# Altium footprint library SparkFun-DiscreteSemi.PCBLIB: 44 footprints (part 2 of 3)
Each footprint in its own frame and in the unit in brackets; x right, y up, seen from the top. Pads: shape width x height; smd on the part's side, far side on the other; paste and mask are expansions set on the pad; w line width, h text height; cw(c..) or ccw(c..) is an arc to the next point about the centre after c.
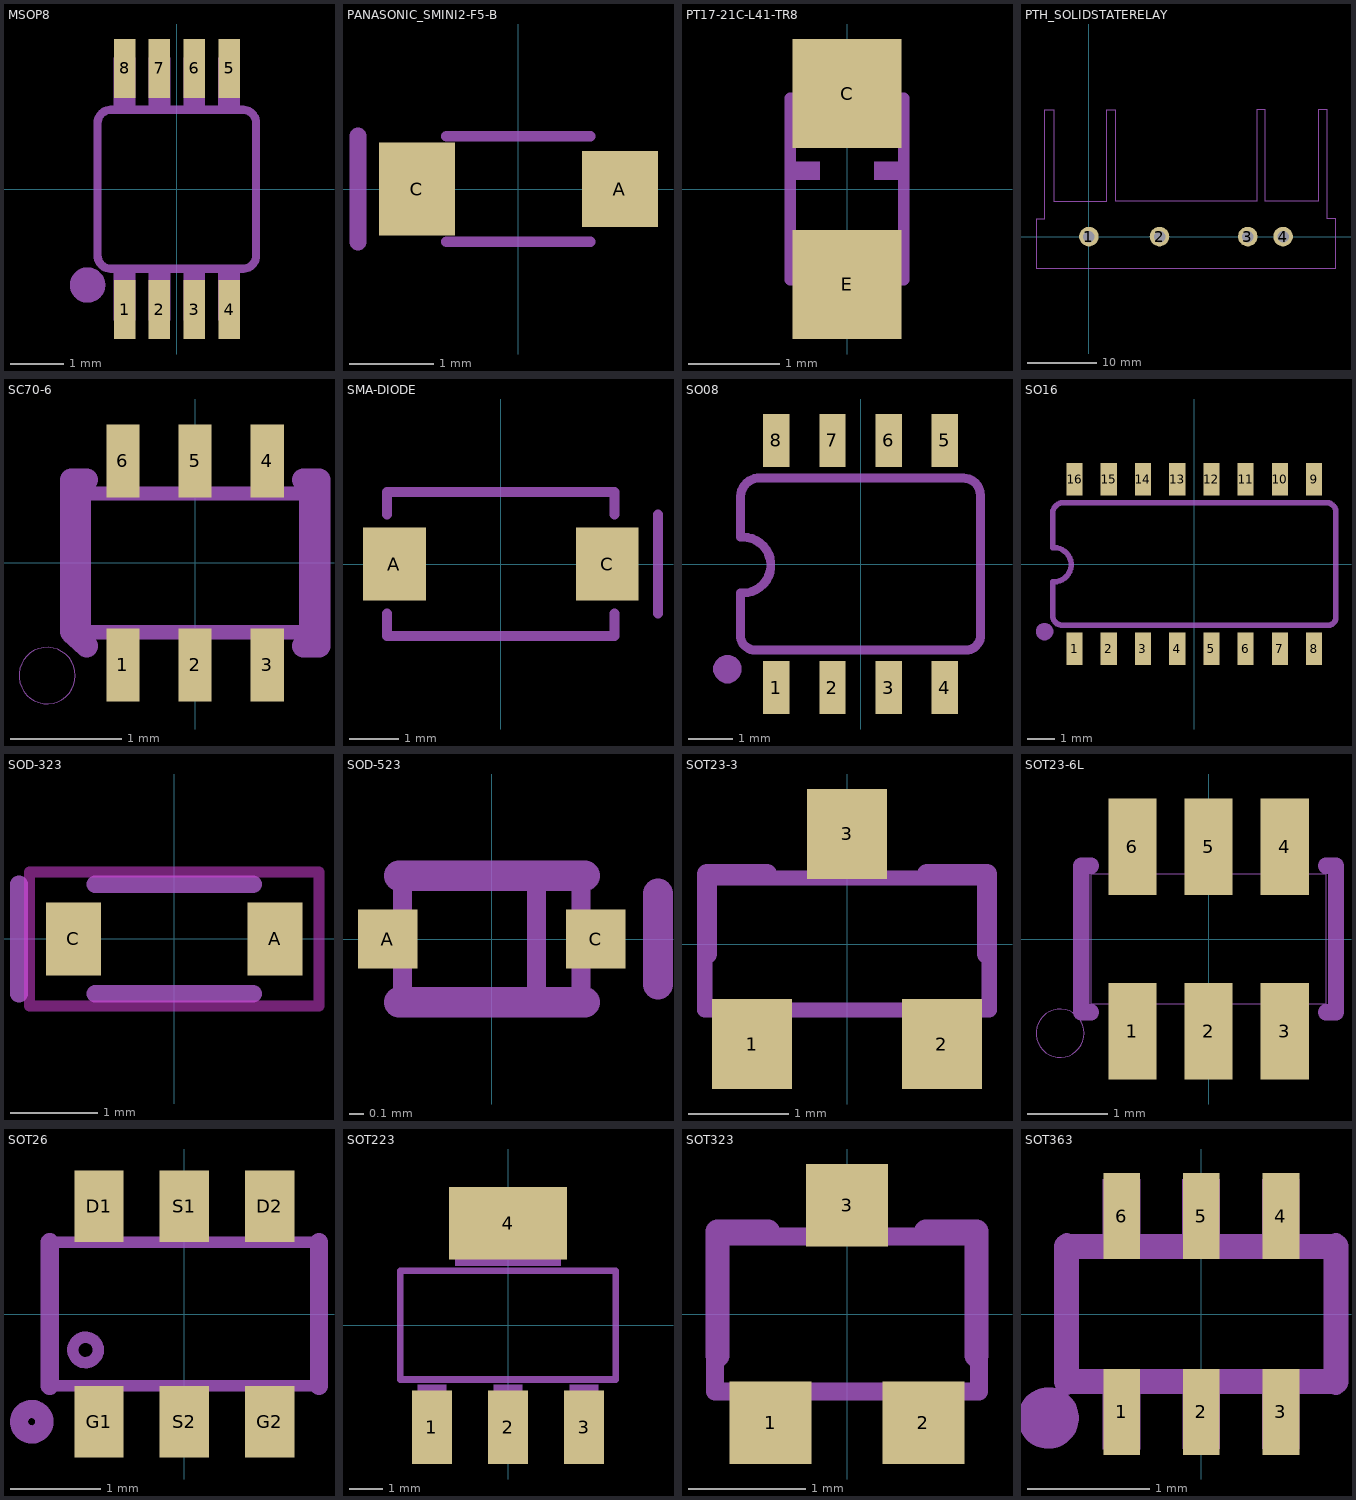
[diagram p1: the footprints below, top view; thin cyan lines are the x and y axes]

## MSOP8 [mm]
pads (8):
  rect 0.4x1.1 smd: 1(-0.975,-2.25) 2(-0.325,-2.25) 3(0.325,-2.25) 4(0.975,-2.25) 5(0.975,2.25) 6(0.325,2.25) 7(-0.325,2.25) 8(-0.975,2.25)
tDocu:
  region: -1.175,-2.45 -1.175,-1.55 -0.775,-1.55 -0.775,-2.45
  region: -0.525,-2.45 -0.525,-1.55 -0.125,-1.55 -0.125,-2.45
  region: 0.125,-2.45 0.125,-1.55 0.525,-1.55 0.525,-2.45
  region: 0.775,-2.45 0.775,-1.55 1.175,-1.55 1.175,-2.45
  region: 0.775,1.55 0.775,2.45 1.175,2.45 1.175,1.55
  region: 0.125,1.55 0.125,2.45 0.525,2.45 0.525,1.55
  region: -0.525,1.55 -0.525,2.45 -0.125,2.45 -0.125,1.55
  region: -1.175,1.55 -1.175,2.45 -0.775,2.45 -0.775,1.55
tPlace:
  circle w0.356: c-1.666,-1.793 r0.152
  lines w0.152: -1.48,-1.24 ccw(c-1.23,-1.24) -1.23,-1.49 ; -1.48,-1.23 -1.48,1.23 cw(c-1.23,1.23) -1.23,1.48 ; -1.22,-1.49 1.24,-1.49 ; -1.22,1.48 1.24,1.48 ; 1.23,-1.49 ccw(c1.23,-1.24) 1.48,-1.24 1.48,1.23 ccw(c1.23,1.23) 1.23,1.48

## PANASONIC_SMINI2-F5-B [mm]
pads (2):
  rect 0.9x0.9 smd: A(1.2,0)
  rect 0.9x1.1 smd: C(-1.2,0)
tPlace:
  lines w0.127: -0.85,-0.625 0.85,-0.625 ; -0.85,0.625 0.85,0.625
  lines w0.203: -1.897,-0.625 -1.897,0.625

## PT17-21C-L41-TR8 [mm]
pads (2):
  rect 1.2x1.2 smd: C(0,1.05) E(0,-1.05)
tDocu:
  region: -0.6,0.1 -0.6,0.3 -0.3,0.3 -0.3,0.1
  region: 0.3,0.1 0.3,0.3 0.6,0.3 0.6,0.1
  lines w0.127: -0.4,1 ccw(c0,1) 0.4,1 ; -0.35,-0.8 -0.625,-0.8 ; 0.35,-0.8 0.6,-0.8 ; -0.625,-0.8 -0.625,-1 -0.4,-1 ; -0.625,-0.8 -0.625,1 0.625,1 0.625,-1 0.4,-1 ; -0.4,-1 0.4,-1 ; -0.4,-1 cw(c0,-1) 0.4,-1
tPlace:
  region: 0.3,0.1 0.3,0.3 0.6,0.3 0.6,0.1
  region: -0.6,0.1 -0.6,0.3 -0.3,0.3 -0.3,0.1

## PTH_SOLIDSTATERELAY [mil]
pads (4):
  round 111 hole 65: 1(0,0) 2(400,0) 3(900,0) 4(1100,0)
tDocu:
  lines w5: -300,-180 -300,100 -250,100 -250,720 -200,720 -200,200 100,200 100,720 150,720 150,200 950,200 950,720 1000,720 1000,200 1300,200 1300,720 1350,720 1350,100 1400,100 1400,-180 -300,-180
tPlace:
  lines w5: -300,-180 -300,100 -250,100 -250,720 -200,720 -200,200 100,200 100,720 150,720 150,200 950,200 950,720 1000,720 1000,200 1300,200 1300,720 1350,720 1350,100 1400,100 1400,-180 -300,-180

## SC70-6 [mm]
pads (6):
  rect 0.3x0.66 smd: 1(-0.65,-0.92) 2(0,-0.92) 3(0.65,-0.92) 4(0.65,0.92) 5(0,0.92) 6(-0.65,0.92)
tDocu:
  region: -0.102,0.686 -0.102,1.041 0.102,1.041 0.102,0.686
  region: -0.102,-1.041 -0.102,-0.686 0.102,-0.686 0.102,-1.041
  region: 0.548,0.686 0.548,1.041 0.752,1.041 0.752,0.686
  region: -0.752,0.686 -0.752,1.041 -0.548,1.041 -0.548,0.686
  region: -0.752,-1.041 -0.752,-0.686 -0.548,-0.686 -0.548,-1.041
  region: 0.548,-1.041 0.548,-0.686 0.752,-0.686 0.752,-1.041
  lines w0.127: -1,-0.625 -1,0.625 1,0.625 1,-0.625 -1,-0.625
tPlace:
  circle w0: c-1.333,-1.016 r0.254
  lines w0.203: -0.978,-0.749 -1.118,-0.622 -1.118,0.749 -0.978,0.749 ; 0.978,-0.749 1.118,-0.749 1.118,0.749 0.978,0.749

## SMA-DIODE [mm]
pads (2):
  rect 1.27x1.47 smd: A(-2.15,0) C(2.15,0)
tPlace:
  lines w0.203: -2.3,-1 -2.3,-1.45 2.3,-1.45 2.3,-1 ; -2.3,1 -2.3,1.45 2.3,1.45 2.3,1 ; 3.175,-1 3.175,1

## SO08 [mm]
pads (8):
  rect 0.6x1.2 smd: 1(-1.905,-2.8) 2(-0.635,-2.8) 3(0.635,-2.8) 4(1.905,-2.8) 5(1.905,2.8) 6(0.635,2.8) 7(-0.635,2.8) 8(-1.905,2.8)
tDocu:
  region: -2.159,-3.302 -2.159,-2.273 -1.651,-2.273 -1.651,-3.302
  region: -0.889,-3.302 -0.889,-2.273 -0.381,-2.273 -0.381,-3.302
  region: 0.381,-3.302 0.381,-2.273 0.889,-2.273 0.889,-3.302
  region: 1.651,-3.302 1.651,-2.273 2.159,-2.273 2.159,-3.302
  region: -0.889,2.286 -0.889,3.302 -0.381,3.302 -0.381,2.286
  region: 0.381,2.286 0.381,3.302 0.889,3.302 0.889,2.286
  region: 1.651,2.286 1.651,3.302 2.159,3.302 2.159,2.286
  region: -2.159,2.286 -2.159,3.302 -1.651,3.302 -1.651,2.286
tPlace:
  region: -2.699,-2.381 -2.699,-2.318 -2.747,-2.201 -2.836,-2.112 -2.953,-2.064 -3.016,-2.064 -3.079,-2.064 -3.196,-2.112 -3.285,-2.201 -3.334,-2.318 -3.334,-2.381 -3.334,-2.444 -3.285,-2.561 -3.196,-2.65 -3.079,-2.699 -3.016,-2.699 -2.953,-2.699 -2.836,-2.65 -2.747,-2.561 -2.699,-2.444 -2.699,-2.381
  lines w0.203: -2.718,-0.66 -2.718,-1.665 ccw(c-2.387,-1.616) -2.337,-1.946 2.437,-1.946 ccw(c2.387,-1.615) 2.718,-1.565 2.718,1.565 ccw(c2.337,1.566) 2.337,1.946 -2.337,1.946 ccw(c-2.287,1.515) -2.718,1.465 ; -2.718,0.61 -2.718,1.453 ; -2.667,-0.66 ccw(c-2.667,-0.025) -2.667,0.61

## SO16 [mm]
pads (16):
  rect 0.6x1.2 smd: 1(-4.445,-3.15) 2(-3.175,-3.15) 3(-1.905,-3.15) 4(-0.635,-3.15) 5(0.635,-3.15) 6(1.905,-3.15) 7(3.175,-3.15) 8(4.445,-3.15) 9(4.445,3.15) 10(3.175,3.15) 11(1.905,3.15) 12(0.635,3.15) 13(-0.635,3.15) 14(-1.905,3.15) 15(-3.175,3.15) 16(-4.445,3.15)
tDocu:
  region: -4.699,-3.683 -4.699,-2.654 -4.191,-2.654 -4.191,-3.683
  region: -3.429,-3.683 -3.429,-2.654 -2.921,-2.654 -2.921,-3.683
  region: -2.159,-3.683 -2.159,-2.654 -1.651,-2.654 -1.651,-3.683
  region: -0.889,-3.683 -0.889,-2.654 -0.381,-2.654 -0.381,-3.683
  region: -3.429,2.667 -3.429,3.683 -2.921,3.683 -2.921,2.667
  region: -2.159,2.667 -2.159,3.683 -1.651,3.683 -1.651,2.667
  region: -0.889,2.667 -0.889,3.683 -0.381,3.683 -0.381,2.667
  region: -4.699,2.667 -4.699,3.683 -4.191,3.683 -4.191,2.667
  region: 0.381,-3.683 0.381,-2.654 0.889,-2.654 0.889,-3.683
  region: 1.651,-3.683 1.651,-2.654 2.159,-2.654 2.159,-3.683
  region: 2.921,-3.683 2.921,-2.654 3.429,-2.654 3.429,-3.683
  region: 4.191,-3.683 4.191,-2.654 4.699,-2.654 4.699,-3.683
  region: 1.651,2.667 1.651,3.683 2.159,3.683 2.159,2.667
  region: 2.921,2.667 2.921,3.683 3.429,3.683 3.429,2.667
  region: 4.191,2.667 4.191,3.683 4.699,3.683 4.699,2.667
  region: 0.381,2.667 0.381,3.683 0.889,3.683 0.889,2.667
tPlace:
  region: -5.239,-2.508 -5.239,-2.445 -5.287,-2.328 -5.376,-2.239 -5.493,-2.191 -5.556,-2.191 -5.619,-2.191 -5.736,-2.239 -5.825,-2.328 -5.874,-2.445 -5.874,-2.508 -5.874,-2.571 -5.825,-2.688 -5.736,-2.777 -5.619,-2.826 -5.556,-2.826 -5.493,-2.826 -5.376,-2.777 -5.287,-2.688 -5.239,-2.571 -5.239,-2.508
  lines w0.203: -5.258,-0.66 -5.258,-1.919 ccw(c-4.89,-1.907) -4.877,-2.275 4.977,-2.275 ccw(c4.953,-1.97) 5.258,-1.946 5.258,1.946 ccw(c4.903,1.92) 4.877,2.275 -4.877,2.275 ccw(c-4.853,1.87) -5.258,1.846 ; -5.258,0.61 -5.258,1.834 ; -5.207,-0.66 ccw(c-5.207,-0.025) -5.207,0.61

## SOD-323 [mm]
pads (2):
  rect 0.63x0.83 smd: A(1.15,0) C(-1.15,0)
Top keep-out:
  lines w0.127: -1.651,-0.762 1.651,-0.762 1.651,0.762 -1.651,0.762 -1.651,-0.762
tPlace:
  lines w0.203: -1.77,-0.625 -1.77,0.625 ; -0.9,-0.625 0.9,-0.625 ; -0.9,0.625 0.9,0.625

## SOD-523 [mm]
pads (2):
  rect 0.4x0.4 smd: A(-0.7,0) C(0.7,0)
tDocu:
  lines w0.127: -0.6,-0.1 -0.6,0.1 ; -0.6,-0.1 -0.6,-0.4 0.3,-0.4 ; -0.6,-0.1 -0.8,-0.1 -0.8,0.1 -0.6,0.1 ; -0.6,0.1 -0.6,0.4 0.3,0.4 ; 0.3,-0.4 0.6,-0.4 0.6,-0.1 ; 0.3,-0.4 0.3,0.4 ; 0.3,0.4 0.6,0.4 0.6,0.1 ; 0.6,-0.1 0.6,0.1 ; 0.6,-0.1 0.8,-0.1 0.8,0.1 0.6,0.1
tPlace:
  lines w0.203: -0.625,-0.425 0.625,-0.425 ; -0.625,0.425 0.625,0.425 ; 1.118,-0.305 1.118,0.305

## SOT23-3 [mil]
pads (3):
  rect 31.5x35.43 smd: 1(-37.4,-39.37) 2(37.4,-39.37) 3(0,43.31)
tDocu:
  lines w6: -56,-26 56,-26 56,26 -56,26 -56,-26
tPlace:
  lines w8: -55.12,-3.94 -55.12,27.56 -31.5,27.56 ; 31.5,27.56 55.12,27.56 55.12,-3.94

## SOT23-6L [mm]
pads (6):
  rect 0.6x1.2 smd: 1(-0.95,-1.15) 2(0,-1.15) 3(0.95,-1.15) 4(0.95,1.15) 5(0,1.15) 6(-0.95,1.15)
tDocu:
  region: 0.738,1.05 0.738,1.4 1.163,1.4 1.163,1.05
  region: -0.213,1.05 -0.213,1.4 0.213,1.4 0.213,1.05
  region: -1.163,1.05 -1.163,1.4 -0.738,1.4 -0.738,1.05
  region: 1.163,-1.05 1.163,-1.4 0.738,-1.4 0.738,-1.05
  region: 0.213,-1.05 0.213,-1.4 -0.213,-1.4 -0.213,-1.05
  region: -0.738,-1.05 -0.738,-1.4 -1.163,-1.4 -1.163,-1.05
  lines w0.003: -1.463,-0.813 -1.463,0.813 1.463,0.813 1.463,-0.813 -1.463,-0.813
tPlace:
  circle w0: c-1.851,-1.174 r0.3
  lines w0.203: -1.465,-0.913 -1.588,-0.913 -1.588,0.913 -1.465,0.913 ; 1.465,-0.913 1.588,-0.913 1.588,0.913 1.465,0.913

## SOT26 [mil]
pads (6):
  rect 21.65x31.5 smd: D1(-37.4,47.24) D2(37.4,47.24) G1(-37.4,-47.24) G2(37.4,-47.24) S1(0,47.24) S2(0,-47.24)
tDocu:
  circle w5: c-43.31,-15.75 r5.57
  lines w5: -59.06,-31.5 -59.06,31.5 59.06,31.5 59.06,-31.5 -59.06,-31.5
tPlace:
  circle w8: c-66.93,-47.24 r5.57
  lines w8: -59.06,-31.5 -59.06,31.5 ; 59.06,-31.5 59.06,31.5

## SOT223 [mil]
pads (4):
  rect 48x88 smd: 1(-91,-122) 2(0,-122) 3(91,-122)
  rect 141.73x86.61 smd: 4(0,122.01)
tDocu:
  region: -63,71 -63,144 63,144 63,71
  region: -17,-144 -17,-71 17,-71 17,-144
  region: -108,-144 -108,-71 -74,-71 -74,-144
  region: 74,-144 74,-71 108,-71 108,-144
  region: -63,71 -63,144 63,144 63,71
  region: -17,-144 -17,-71 17,-71 17,-144
  region: -108,-144 -108,-71 -74,-71 -74,-144
  region: 74,-144 74,-71 108,-71 108,-144
tPlace:
  lines w8: -129,-65 129,-65 129,65 -129,65 -129,-65

## SOT323 [mm]
pads (3):
  rect 0.7x0.7 smd: 1(-0.65,-0.925) 2(0.65,-0.925) 3(0,0.925)
tDocu:
  lines w0.152: -1.122,-0.66 1.122,-0.66 1.122,0.66 -1.122,0.66 -1.122,-0.66
tPlace:
  lines w0.203: -1.1,-0.354 -1.1,0.7 -0.673,0.7 ; 0.673,0.7 1.1,0.7 1.1,-0.354

## SOT363 [mil]
pads (6):
  rect 11.81x27.56 smd: 1(-25.59,-31.5) 2(0,-31.5) 3(25.59,-31.5) 4(25.59,31.5) 5(0,31.5) 6(-25.59,31.5)
tDocu:
  region: -31.74,-43.43 -31.74,-23.62 -19.69,-23.62 -19.69,-43.43
  region: -5.98,-43.37 -5.98,-23.62 5.91,-23.62 5.91,-43.37
  region: 19.66,-43.34 19.66,-23.62 31.5,-23.62 31.5,-43.34
  region: 19.64,23.66 19.64,43.31 31.5,43.31 31.5,23.66
  region: -6.05,23.68 -6.05,43.31 5.91,43.31 5.91,23.68
  region: -31.69,23.68 -31.69,43.31 -19.69,43.31 -19.69,23.68
  lines w8: -43.31,-21.65 43.31,-21.65 43.31,21.65 -43.31,21.65 -43.31,-21.65
tPlace:
  circle w11.81: c-49.21,-33.46 r3.94
  lines w5: -43.31,-23.62 -43.31,23.62 ; 43.31,-23.62 43.31,23.62